# EAGLE library part LM380 (library linear)
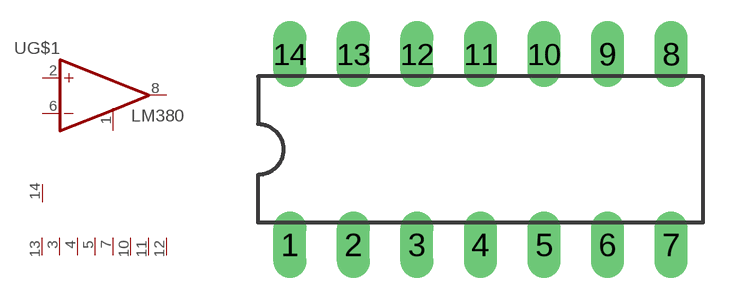
[diagram p279: symbol with the pads of DIL14; footprint DIL14]

Designator prefix -; gates G$1=AMP_GND_BYP G$2=AMP_PWR

## LM380N  [DIL14]
1  G$1:BYPASS  pas
2  G$1:+IN  in
3  G$2:GND1  pwr
4  G$2:GND2  pwr
5  G$2:GND3  pwr
6  G$1:-IN  in
7  G$2:GND4  pwr
8  G$1:OUT  out
10  G$2:GND5  pwr
11  G$2:GND6  pwr
12  G$2:GND7  pwr
13  G$2:GND  pwr
14  G$2:VS  pwr

## Footprint DIL14 (pad centres in mm)
Dual In Line Package
drill 0.813 long: 1 -7.62,-3.81; 2 -5.08,-3.81; 3 -2.54,-3.81; 4 0,-3.81; 5 2.54,-3.81; 6 5.08,-3.81; 7 7.62,-3.81; 8 7.62,3.81; 9 5.08,3.81; 10 2.54,3.81; 11 0,3.81; 12 -2.54,3.81; 13 -5.08,3.81; 14 -7.62,3.81